# Altium schematic symbol library CAPACITOR NON-POL.Schlib: 1 symbol
Pins are listed as number, name and electrical type; pins without a type are passive.

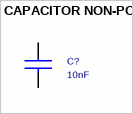
[diagram p0: symbol CAPACITOR NON-POL]

## CAPACITOR NON-POL
designator C?, comment 10nF
pins: 1, 2